# Altium schematic symbol library FTOK_schlib.SchLib: 11 symbols
Pins are listed as number, name and electrical type; pins without a type are passive.

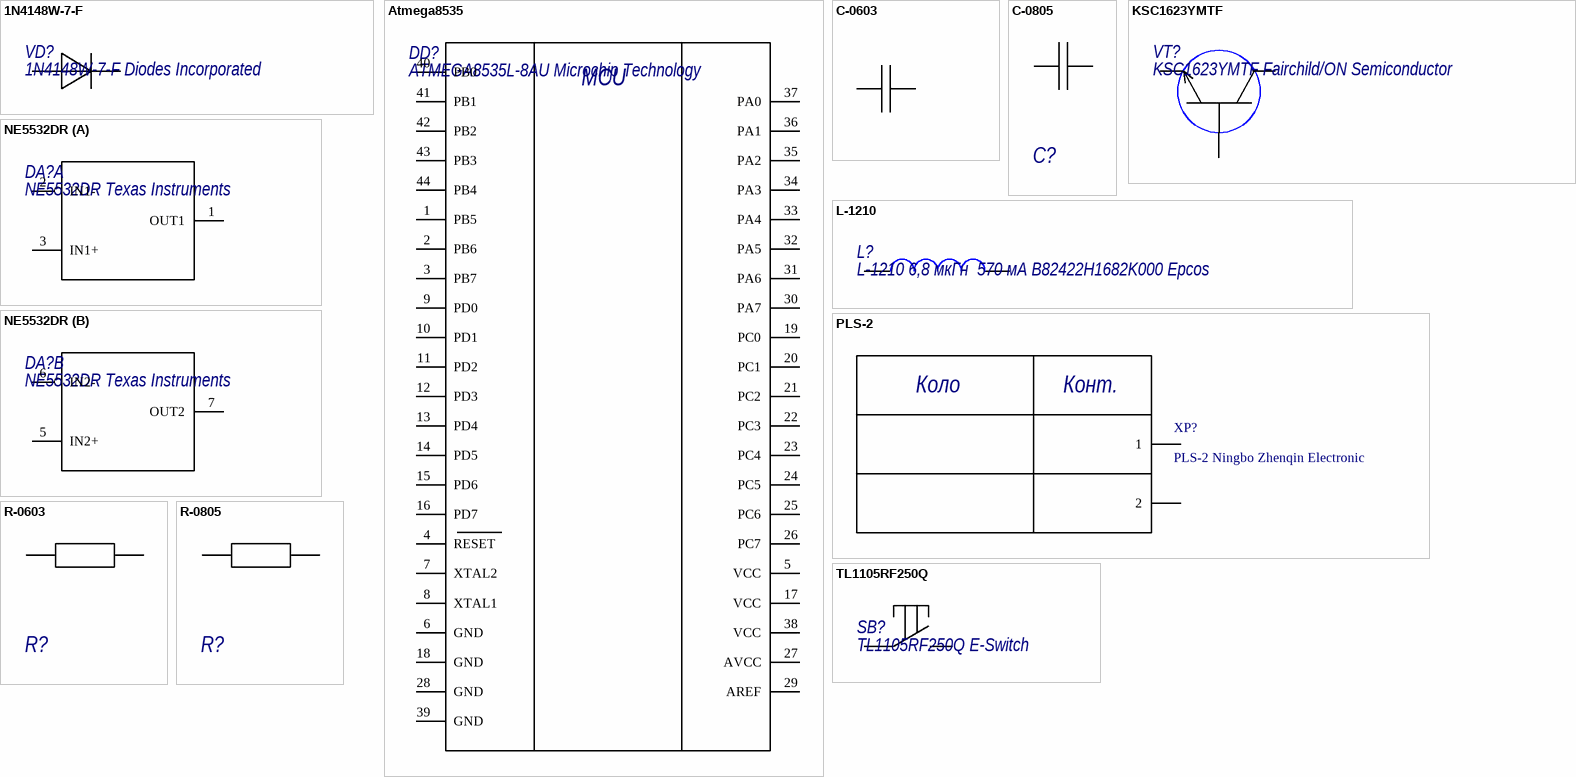
[diagram p0: symbols 1N4148W-7-F to TL1105RF250Q]

## 1N4148W-7-F
designator VD?, comment 1N4148W-7-F Diodes Incorporated
1N4148W-7-F; Manufacturer: Diodes Incorporated; Name: 1N4148W-7-F
footprint SOD123
pins: 1, 2

## Atmega8535
designator DD?, comment ATMEGA8535L-8AU Microchip Technology
ATMEGA8535L-8AU; Manufacturer: Microchip Technology; Name: ATMEGA8535L-8AU
footprint 44TQFP
pins: 1 PB5, 2 PB6, 3 PB7, 4 RESET, 5 VCC, 6 GND, 7 XTAL2, 8 XTAL1, 9 PD0, 10 PD1, 11 PD2, 12 PD3, 13 PD4, 14 PD5, 15 PD6, 16 PD7, 17 VCC, 18 GND, 19 PC0, 20 PC1, 21 PC2, 22 PC3, 23 PC4, 24 PC5, 25 PC6, 26 PC7, 27 AVCC, 28 GND, 29 AREF, 30 PA7, 31 PA6, 32 PA5, 33 PA4, 34 PA3, 35 PA2, 36 PA1, 37 PA0, 38 VCC, 39 GND, 40 PB0, 41 PB1, 42 PB2, 43 PB3, 44 PB4
text: MCU

## C-0603
designator C?, comment С-0603 50 В 100 пФ 10% X7R Kemet  (value not drawn)
C-0603; Value: 100 пФ; Voltage: 50 В; Package: С-0603; Temp_Coef: X7R; Tolerance: 10%; Manufacturer: Kemet
footprint C-0603 (capacitor 0603 reflow soldering)
pins: 1, 2

## C-0805
designator C?, comment С-0805 100 В 100 пФ 5% C0G/NP0 Kemet  (value not drawn)
C-0805; Value: 100 пФ; Voltage: 100 В; Package: С-0805; Temp_Coef: C0G/NP0; Tolerance: 5%; Manufacturer: Kemet
footprint C-0805 (capacitor 0805 reflow soldering)
pins: 1, 2

## KSC1623YMTF
designator VT?, comment KSC1623YMTF Fairchild/ON Semiconductor
KSC1623YMTF; Manufacturer: Fairchild/ON Semiconductor; Name: KSC1623YMTF
footprint SOT23 (SOT23, 3-Leads, Body 2,90x2,45mm, Pitch 0,95mm, IPC Medium Density)
pins: 1, 2, 3

## L-1210
designator L?, comment L-1210 6,8 мкГн  570 мА B82422H1682K000 Epcos
B82422H1682K000; Manufacturer: Epcos; Name: L-1210 6,8 мкГн  570 мА B82422H1682K000
footprint L-1210
pins: 1, 2

## NE5532DR
designator DA?, comment NE5532DR Texas Instruments
Manufacturer: Texas Instruments; Name: NE5532DR
footprint SOIC-8 (SOIC, 8-Leads, Body 4,90x3,90mm, Pitch 1,27mm, IPC Medium Density)
part A pins: 1 OUT1, 2 IN1-, 3 IN1+
part B pins: 4 GND hidden, 5 IN2+, 6 IN2-, 7 OUT2, 8 Vcc hidden

## PLS-2
designator XP?, comment PLS-2 Ningbo Zhenqin Electronic
PLS-2; Manufacturer: Ningbo Zhenqin Electronic; Name: PLS-2
footprint PLS-2
pins: 1, 2
text: Коло; Конт.

## R-0603
designator R?, comment R-0603 0,1 Вт 1 кОм 5% Yageo  (value not drawn)
R-0603; Value: 1 кОм; Power: 0,1 Вт; Package: R-0603; Tolerance: 5%; Manufacturer: Yageo
footprint R-0603 (Resistor 0603)
pins: 1, 2

## R-0805
designator R?, comment R-0805 0,125 Вт 1 кОм 5% Yageo  (value not drawn)
R-0805; Value: 1 кОм; Package: R-0805; Power: 0,125 Вт; Tolerance: 5%; Manufacturer: Yageo
footprint R-0805 (resistor 0805)
pins: 1, 2

## TL1105RF250Q
designator SB?, comment TL1105RF250Q E-Switch
TL1105RF250Q; Name: TL1105RF250Q; Manufacturer: E-Switch
footprint TL1105RF250Q
pins: 1, 2